# EAGLE library part 2X5-RAF (library bodger)
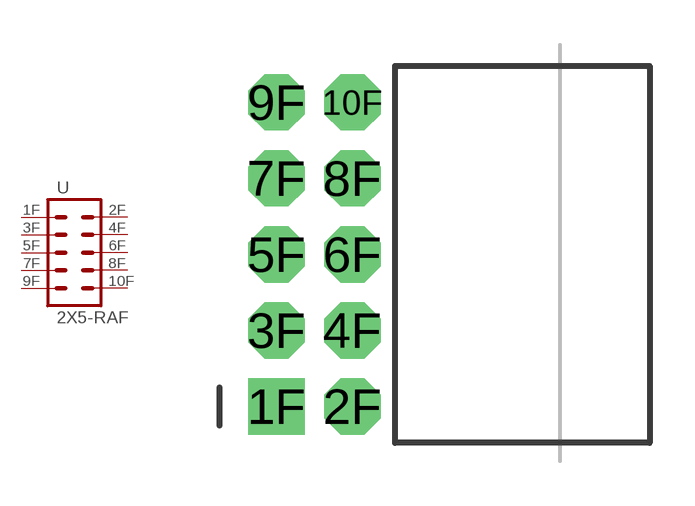
[diagram p26: symbol with the pads of 2X5-RAF; footprint 2X5-RAF]

Designator prefix -

## 2X5-RAF  [2X5-RAF]
1F  1  pas
2F  2  pas
3F  3  pas
4F  4  pas
5F  5  pas
6F  6  pas
7F  7  pas
8F  8  pas
9F  9  pas
10F  10  pas

## Footprint 2X5-RAF (pad centres in mm)
drill 1.016 pad 1.88 square: 1F -1.27,-5.08
drill 1.016 pad 1.88 octagon: 2F 1.27,-5.08; 3F -1.27,-2.54; 4F 1.27,-2.54; 5F -1.27,0; 6F 1.27,0; 7F -1.27,2.54; 8F 1.27,2.54; 9F -1.27,5.08; 10F 1.27,5.08